# Altium footprint library Connector_JAE.PcbLib: 46 footprints (part 3 of 3)
Each footprint in its own frame and in the unit in brackets; x right, y up, seen from the top. Pads: shape width x height; smd on the part's side, far side on the other; paste and mask are expansions set on the pad; w line width, h text height; cw(c..) or ccw(c..) is an arc to the next point about the centre after c.
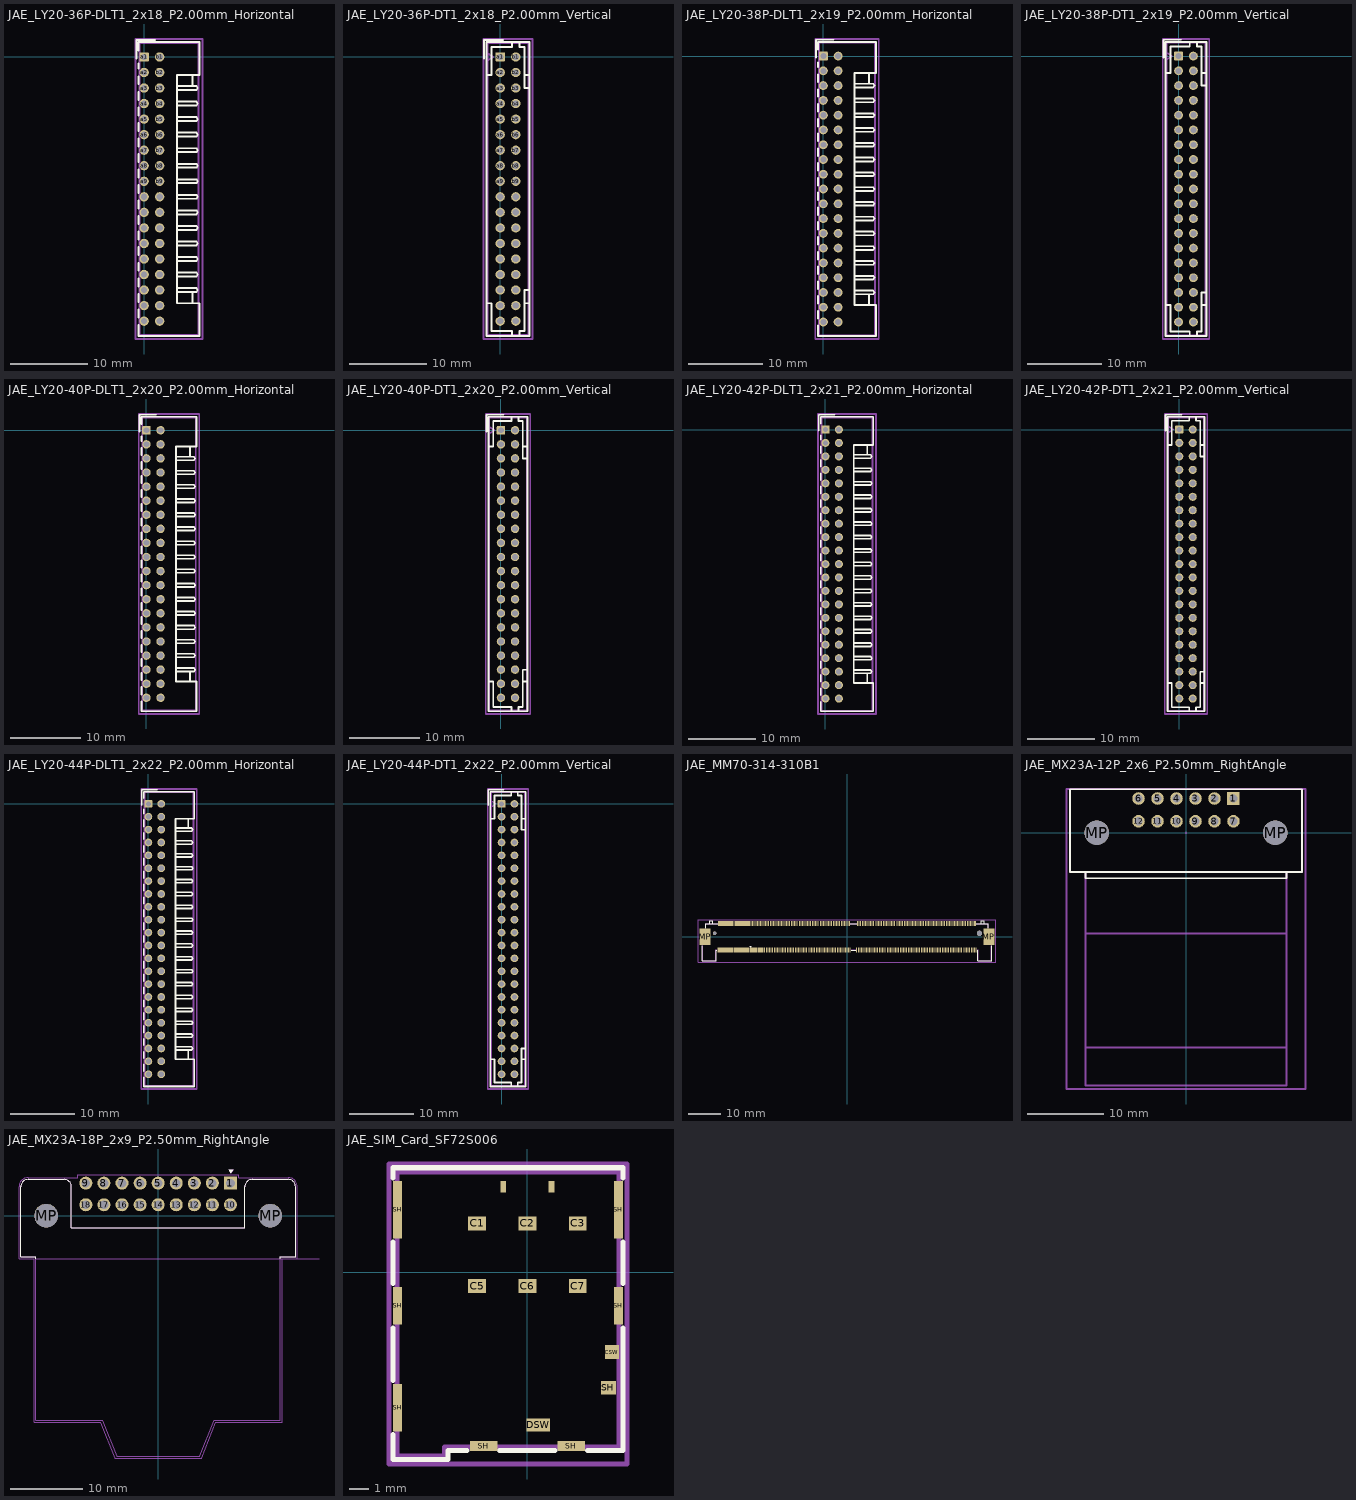
[diagram p2: the footprints below, top view; thin cyan lines are the x and y axes]

## JAE_LY20-36P-DLT1_2x18_P2.00mm_Horizontal [mm]
pads (36):
  rrect21% 1.2x1.2 hole 0.8: a1(0,0)
  round 1.2 hole 0.8: a2(0,-2) a3(0,-4) a4(0,-6) a5(0,-8) a6(0,-10) a7(0,-12) a8(0,-14) a9(0,-16) a10(0,-18) a11(0,-20) a12(0,-22) a13(0,-24) a14(0,-26) a15(0,-28) a16(0,-30) a17(0,-32) a18(0,-34) b1(2,0) b2(2,-2) b3(2,-4) b4(2,-6) b5(2,-8) b6(2,-10) b7(2,-12) b8(2,-14) b9(2,-16) b10(2,-18) b11(2,-20) b12(2,-22) b13(2,-24) b14(2,-26) b15(2,-28) b16(2,-30) b17(2,-32) b18(2,-34)
F.SilkS:
  lines w0.254: -1.01,-0.2 -1.01,2.21 1.4,2.21 ; -0.71,-34.485 -0.71,-35.91 7.11,-35.91 7.11,-31.7 4.2,-31.7 4.2,-17 4.2,-2.3 7.11,-2.3 7.11,1.91 -0.71,1.91 -0.71,0.86 ; -0.71,-33.515 -0.71,-32.485 ; -0.71,-31.515 -0.71,-30.485 ; -0.71,-29.515 -0.71,-28.485 ; -0.71,-27.515 -0.71,-26.485 ; -0.71,-25.515 -0.71,-24.485 ; -0.71,-23.515 -0.71,-22.485 ; -0.71,-21.515 -0.71,-20.485 ; -0.71,-19.515 -0.71,-18.485 ; -0.71,-17.515 -0.71,-16.485 ; -0.71,-15.515 -0.71,-14.485 ; -0.71,-13.515 -0.71,-12.485 ; -0.71,-11.515 -0.71,-10.485 ; -0.71,-9.515 -0.71,-8.485 ; -0.71,-7.515 -0.71,-6.485 ; -0.71,-5.515 -0.71,-4.485 ; -0.71,-3.515 -0.71,-2.485 ; -0.71,-1.515 -0.71,-0.86 ; 4.2,-30.25 6.733,-30.25 6.9,-30 6.733,-29.75 4.2,-29.75 ; 4.2,-28.25 6.733,-28.25 6.9,-28 6.733,-27.75 4.2,-27.75 ; 4.2,-26.25 6.733,-26.25 6.9,-26 6.733,-25.75 4.2,-25.75 ; 4.2,-24.25 6.733,-24.25 6.9,-24 6.733,-23.75 4.2,-23.75 ; 4.2,-22.25 6.733,-22.25 6.9,-22 6.733,-21.75 4.2,-21.75 ; 4.2,-20.25 6.733,-20.25 6.9,-20 6.733,-19.75 4.2,-19.75 ; 4.2,-18.25 6.733,-18.25 6.9,-18 6.733,-17.75 4.2,-17.75 ; 4.2,-16.25 6.733,-16.25 6.9,-16 6.733,-15.75 4.2,-15.75 ; 4.2,-14.25 6.733,-14.25 6.9,-14 6.733,-13.75 4.2,-13.75 ; 4.2,-12.25 6.733,-12.25 6.9,-12 6.733,-11.75 4.2,-11.75 ; 4.2,-10.25 6.733,-10.25 6.9,-10 6.733,-9.75 4.2,-9.75 ; 4.2,-8.25 6.733,-8.25 6.9,-8 6.733,-7.75 4.2,-7.75 ; 4.2,-6.25 6.733,-6.25 6.9,-6 6.733,-5.75 4.2,-5.75 ; 4.2,-4.25 6.733,-4.25 6.9,-4 6.733,-3.75 4.2,-3.75 ; 6.2,-31.7 6.2,-30.25 ; 6.2,-3.75 6.2,-2.3
Top Assembly:
  lines w0.254: -0.6,-0.5 0.107,0 -0.6,0.5 ; -0.6,-35.8 7,-35.8 7,1.8 -0.6,1.8 -0.6,-35.8
  text "'.Designator'" at -0.847,-35.94 h1
Top Courtyard:
  lines w0.254: -1.1,-36.3 7.5,-36.3 7.5,2.31 -1.1,2.31 -1.1,-36.3
Top Designator:
  text ".Designator" at -4.418,-17.503 h1.52

## JAE_LY20-36P-DT1_2x18_P2.00mm_Vertical [mm]
pads (36):
  rrect21% 1.2x1.2 hole 0.8: a1(0,0)
  round 1.2 hole 0.8: a2(0,-2) a3(0,-4) a4(0,-6) a5(0,-8) a6(0,-10) a7(0,-12) a8(0,-14) a9(0,-16) a10(0,-18) a11(0,-20) a12(0,-22) a13(0,-24) a14(0,-26) a15(0,-28) a16(0,-30) a17(0,-32) a18(0,-34) b1(2,0) b2(2,-2) b3(2,-4) b4(2,-6) b5(2,-8) b6(2,-10) b7(2,-12) b8(2,-14) b9(2,-16) b10(2,-18) b11(2,-20) b12(2,-22) b13(2,-24) b14(2,-26) b15(2,-28) b16(2,-30) b17(2,-32) b18(2,-34)
F.SilkS:
  lines w0.254: -2.06,-0.2 -2.06,2.21 0.35,2.21 ; -1.76,-31.7 -1.1,-31.7 -1.1,-35.3 1.5,-35.3 1.5,-35.91 ; -1.76,-2.3 -1.1,-2.3 -1.1,1.3 1.5,1.3 1.5,1.91 ; 2.5,-35.91 2.5,-35.3 3.1,-35.3 3.1,-30 3.76,-30 ; 2.5,1.91 2.5,1.3 3.1,1.3 3.1,-4 3.76,-4 ; 3.1,-31.7 3.76,-31.7 ; 3.1,-2.3 3.76,-2.3 ; -1.76,-35.91 3.76,-35.91 3.76,1.91 -1.76,1.91 -1.76,-35.91
Top Assembly:
  lines w0.254: -1.65,-0.5 -0.943,0 -1.65,0.5 ; -1.65,-35.8 3.65,-35.8 3.65,1.8 -1.65,1.8 -1.65,-35.8
  text "'.Designator'" at 3.79,-21.047 h1
Top Courtyard:
  lines w0.254: -2.15,-36.3 4.15,-36.3 4.15,2.31 -2.15,2.31 -2.15,-36.3
Top Designator:
  text ".Designator" at -6.618,-17.503 h1.52

## JAE_LY20-38P-DLT1_2x19_P2.00mm_Horizontal [mm]
pads (38):
  rrect21% 1.2x1.2 hole 0.8: a1(0,0)
  round 1.2 hole 0.8: a2(0,-2) a3(0,-4) a4(0,-6) a5(0,-8) a6(0,-10) a7(0,-12) a8(0,-14) a9(0,-16) a10(0,-18) a11(0,-20) a12(0,-22) a13(0,-24) a14(0,-26) a15(0,-28) a16(0,-30) a17(0,-32) a18(0,-34) a19(0,-36) b1(2,0) b2(2,-2) b3(2,-4) b4(2,-6) b5(2,-8) b6(2,-10) b7(2,-12) b8(2,-14) b9(2,-16) b10(2,-18) b11(2,-20) b12(2,-22) b13(2,-24) b14(2,-26) b15(2,-28) b16(2,-30) b17(2,-32) b18(2,-34) b19(2,-36)
F.SilkS:
  lines w0.254: -1.01,-0.2 -1.01,2.21 1.4,2.21 ; -0.71,-36.485 -0.71,-37.91 7.11,-37.91 7.11,-33.7 4.2,-33.7 4.2,-18 4.2,-2.3 7.11,-2.3 7.11,1.91 -0.71,1.91 -0.71,0.86 ; -0.71,-35.515 -0.71,-34.485 ; -0.71,-33.515 -0.71,-32.485 ; -0.71,-31.515 -0.71,-30.485 ; -0.71,-29.515 -0.71,-28.485 ; -0.71,-27.515 -0.71,-26.485 ; -0.71,-25.515 -0.71,-24.485 ; -0.71,-23.515 -0.71,-22.485 ; -0.71,-21.515 -0.71,-20.485 ; -0.71,-19.515 -0.71,-18.485 ; -0.71,-17.515 -0.71,-16.485 ; -0.71,-15.515 -0.71,-14.485 ; -0.71,-13.515 -0.71,-12.485 ; -0.71,-11.515 -0.71,-10.485 ; -0.71,-9.515 -0.71,-8.485 ; -0.71,-7.515 -0.71,-6.485 ; -0.71,-5.515 -0.71,-4.485 ; -0.71,-3.515 -0.71,-2.485 ; -0.71,-1.515 -0.71,-0.86 ; 4.2,-32.25 6.733,-32.25 6.9,-32 6.733,-31.75 4.2,-31.75 ; 4.2,-30.25 6.733,-30.25 6.9,-30 6.733,-29.75 4.2,-29.75 ; 4.2,-28.25 6.733,-28.25 6.9,-28 6.733,-27.75 4.2,-27.75 ; 4.2,-26.25 6.733,-26.25 6.9,-26 6.733,-25.75 4.2,-25.75 ; 4.2,-24.25 6.733,-24.25 6.9,-24 6.733,-23.75 4.2,-23.75 ; 4.2,-22.25 6.733,-22.25 6.9,-22 6.733,-21.75 4.2,-21.75 ; 4.2,-20.25 6.733,-20.25 6.9,-20 6.733,-19.75 4.2,-19.75 ; 4.2,-18.25 6.733,-18.25 6.9,-18 6.733,-17.75 4.2,-17.75 ; 4.2,-16.25 6.733,-16.25 6.9,-16 6.733,-15.75 4.2,-15.75 ; 4.2,-14.25 6.733,-14.25 6.9,-14 6.733,-13.75 4.2,-13.75 ; 4.2,-12.25 6.733,-12.25 6.9,-12 6.733,-11.75 4.2,-11.75 ; 4.2,-10.25 6.733,-10.25 6.9,-10 6.733,-9.75 4.2,-9.75 ; 4.2,-8.25 6.733,-8.25 6.9,-8 6.733,-7.75 4.2,-7.75 ; 4.2,-6.25 6.733,-6.25 6.9,-6 6.733,-5.75 4.2,-5.75 ; 4.2,-4.25 6.733,-4.25 6.9,-4 6.733,-3.75 4.2,-3.75 ; 6.2,-33.7 6.2,-32.25 ; 6.2,-3.75 6.2,-2.3
Top Assembly:
  lines w0.254: -0.6,-0.5 0.107,0 -0.6,0.5 ; -0.6,-37.8 7,-37.8 7,1.8 -0.6,1.8 -0.6,-37.8
  text "'.Designator'" at -0.847,-37.94 h1
Top Courtyard:
  lines w0.254: -1.1,-38.3 7.5,-38.3 7.5,2.31 -1.1,2.31 -1.1,-38.3
Top Designator:
  text ".Designator" at -4.418,-18.503 h1.52

## JAE_LY20-38P-DT1_2x19_P2.00mm_Vertical [mm]
pads (38):
  rrect21% 1.2x1.2 hole 0.8: a1(0,0)
  round 1.2 hole 0.8: a2(0,-2) a3(0,-4) a4(0,-6) a5(0,-8) a6(0,-10) a7(0,-12) a8(0,-14) a9(0,-16) a10(0,-18) a11(0,-20) a12(0,-22) a13(0,-24) a14(0,-26) a15(0,-28) a16(0,-30) a17(0,-32) a18(0,-34) a19(0,-36) b1(2,0) b2(2,-2) b3(2,-4) b4(2,-6) b5(2,-8) b6(2,-10) b7(2,-12) b8(2,-14) b9(2,-16) b10(2,-18) b11(2,-20) b12(2,-22) b13(2,-24) b14(2,-26) b15(2,-28) b16(2,-30) b17(2,-32) b18(2,-34) b19(2,-36)
F.SilkS:
  lines w0.254: -2.06,-0.2 -2.06,2.21 0.35,2.21 ; -1.76,-33.7 -1.1,-33.7 -1.1,-37.3 1.5,-37.3 1.5,-37.91 ; -1.76,-2.3 -1.1,-2.3 -1.1,1.3 1.5,1.3 1.5,1.91 ; 2.5,-37.91 2.5,-37.3 3.1,-37.3 3.1,-32 3.76,-32 ; 2.5,1.91 2.5,1.3 3.1,1.3 3.1,-4 3.76,-4 ; 3.1,-33.7 3.76,-33.7 ; 3.1,-2.3 3.76,-2.3 ; -1.76,-37.91 3.76,-37.91 3.76,1.91 -1.76,1.91 -1.76,-37.91
Top Assembly:
  lines w0.254: -1.65,-0.5 -0.943,0 -1.65,0.5 ; -1.65,-37.8 3.65,-37.8 3.65,1.8 -1.65,1.8 -1.65,-37.8
  text "'.Designator'" at 3.79,-22.047 h1
Top Courtyard:
  lines w0.254: -2.15,-38.3 4.15,-38.3 4.15,2.31 -2.15,2.31 -2.15,-38.3
Top Designator:
  text ".Designator" at -6.618,-18.503 h1.52

## JAE_LY20-40P-DLT1_2x20_P2.00mm_Horizontal [mm]
pads (40):
  rrect21% 1.2x1.2 hole 0.8: a1(0,0)
  round 1.2 hole 0.8: a2(0,-2) a3(0,-4) a4(0,-6) a5(0,-8) a6(0,-10) a7(0,-12) a8(0,-14) a9(0,-16) a10(0,-18) a11(0,-20) a12(0,-22) a13(0,-24) a14(0,-26) a15(0,-28) a16(0,-30) a17(0,-32) a18(0,-34) a19(0,-36) a20(0,-38) b1(2,0) b2(2,-2) b3(2,-4) b4(2,-6) b5(2,-8) b6(2,-10) b7(2,-12) b8(2,-14) b9(2,-16) b10(2,-18) b11(2,-20) b12(2,-22) b13(2,-24) b14(2,-26) b15(2,-28) b16(2,-30) b17(2,-32) b18(2,-34) b19(2,-36) b20(2,-38)
F.SilkS:
  lines w0.254: -1.01,-0.2 -1.01,2.21 1.4,2.21 ; -0.71,-38.485 -0.71,-39.91 7.11,-39.91 7.11,-35.7 4.2,-35.7 4.2,-19 4.2,-2.3 7.11,-2.3 7.11,1.91 -0.71,1.91 -0.71,0.86 ; -0.71,-37.515 -0.71,-36.485 ; -0.71,-35.515 -0.71,-34.485 ; -0.71,-33.515 -0.71,-32.485 ; -0.71,-31.515 -0.71,-30.485 ; -0.71,-29.515 -0.71,-28.485 ; -0.71,-27.515 -0.71,-26.485 ; -0.71,-25.515 -0.71,-24.485 ; -0.71,-23.515 -0.71,-22.485 ; -0.71,-21.515 -0.71,-20.485 ; -0.71,-19.515 -0.71,-18.485 ; -0.71,-17.515 -0.71,-16.485 ; -0.71,-15.515 -0.71,-14.485 ; -0.71,-13.515 -0.71,-12.485 ; -0.71,-11.515 -0.71,-10.485 ; -0.71,-9.515 -0.71,-8.485 ; -0.71,-7.515 -0.71,-6.485 ; -0.71,-5.515 -0.71,-4.485 ; -0.71,-3.515 -0.71,-2.485 ; -0.71,-1.515 -0.71,-0.86 ; 4.2,-34.25 6.733,-34.25 6.9,-34 6.733,-33.75 4.2,-33.75 ; 4.2,-32.25 6.733,-32.25 6.9,-32 6.733,-31.75 4.2,-31.75 ; 4.2,-30.25 6.733,-30.25 6.9,-30 6.733,-29.75 4.2,-29.75 ; 4.2,-28.25 6.733,-28.25 6.9,-28 6.733,-27.75 4.2,-27.75 ; 4.2,-26.25 6.733,-26.25 6.9,-26 6.733,-25.75 4.2,-25.75 ; 4.2,-24.25 6.733,-24.25 6.9,-24 6.733,-23.75 4.2,-23.75 ; 4.2,-22.25 6.733,-22.25 6.9,-22 6.733,-21.75 4.2,-21.75 ; 4.2,-20.25 6.733,-20.25 6.9,-20 6.733,-19.75 4.2,-19.75 ; 4.2,-18.25 6.733,-18.25 6.9,-18 6.733,-17.75 4.2,-17.75 ; 4.2,-16.25 6.733,-16.25 6.9,-16 6.733,-15.75 4.2,-15.75 ; 4.2,-14.25 6.733,-14.25 6.9,-14 6.733,-13.75 4.2,-13.75 ; 4.2,-12.25 6.733,-12.25 6.9,-12 6.733,-11.75 4.2,-11.75 ; 4.2,-10.25 6.733,-10.25 6.9,-10 6.733,-9.75 4.2,-9.75 ; 4.2,-8.25 6.733,-8.25 6.9,-8 6.733,-7.75 4.2,-7.75 ; 4.2,-6.25 6.733,-6.25 6.9,-6 6.733,-5.75 4.2,-5.75 ; 4.2,-4.25 6.733,-4.25 6.9,-4 6.733,-3.75 4.2,-3.75 ; 6.2,-35.7 6.2,-34.25 ; 6.2,-3.75 6.2,-2.3
Top Assembly:
  lines w0.254: -0.6,-0.5 0.107,0 -0.6,0.5 ; -0.6,-39.8 7,-39.8 7,1.8 -0.6,1.8 -0.6,-39.8
  text "'.Designator'" at -0.847,-39.94 h1
Top Courtyard:
  lines w0.254: -1.1,-40.3 7.5,-40.3 7.5,2.31 -1.1,2.31 -1.1,-40.3
Top Designator:
  text ".Designator" at -4.418,-19.503 h1.52

## JAE_LY20-40P-DT1_2x20_P2.00mm_Vertical [mm]
pads (40):
  rrect21% 1.2x1.2 hole 0.8: a1(0,0)
  round 1.2 hole 0.8: a2(0,-2) a3(0,-4) a4(0,-6) a5(0,-8) a6(0,-10) a7(0,-12) a8(0,-14) a9(0,-16) a10(0,-18) a11(0,-20) a12(0,-22) a13(0,-24) a14(0,-26) a15(0,-28) a16(0,-30) a17(0,-32) a18(0,-34) a19(0,-36) a20(0,-38) b1(2,0) b2(2,-2) b3(2,-4) b4(2,-6) b5(2,-8) b6(2,-10) b7(2,-12) b8(2,-14) b9(2,-16) b10(2,-18) b11(2,-20) b12(2,-22) b13(2,-24) b14(2,-26) b15(2,-28) b16(2,-30) b17(2,-32) b18(2,-34) b19(2,-36) b20(2,-38)
F.SilkS:
  lines w0.254: -2.06,-0.2 -2.06,2.21 0.35,2.21 ; -1.76,-35.7 -1.1,-35.7 -1.1,-39.3 1.5,-39.3 1.5,-39.91 ; -1.76,-2.3 -1.1,-2.3 -1.1,1.3 1.5,1.3 1.5,1.91 ; 2.5,-39.91 2.5,-39.3 3.1,-39.3 3.1,-34 3.76,-34 ; 2.5,1.91 2.5,1.3 3.1,1.3 3.1,-4 3.76,-4 ; 3.1,-35.7 3.76,-35.7 ; 3.1,-2.3 3.76,-2.3 ; -1.76,-39.91 3.76,-39.91 3.76,1.91 -1.76,1.91 -1.76,-39.91
Top Assembly:
  lines w0.254: -1.65,-0.5 -0.943,0 -1.65,0.5 ; -1.65,-39.8 3.65,-39.8 3.65,1.8 -1.65,1.8 -1.65,-39.8
  text "'.Designator'" at 3.79,-23.047 h1
Top Courtyard:
  lines w0.254: -2.15,-40.3 4.15,-40.3 4.15,2.31 -2.15,2.31 -2.15,-40.3
Top Designator:
  text ".Designator" at -6.618,-19.503 h1.52

## JAE_LY20-42P-DLT1_2x21_P2.00mm_Horizontal [mm]
pads (42):
  rrect21% 1.2x1.2 hole 0.8: a1(0,0)
  round 1.2 hole 0.8: a2(0,-2) a3(0,-4) a4(0,-6) a5(0,-8) a6(0,-10) a7(0,-12) a8(0,-14) a9(0,-16) a10(0,-18) a11(0,-20) a12(0,-22) a13(0,-24) a14(0,-26) a15(0,-28) a16(0,-30) a17(0,-32) a18(0,-34) a19(0,-36) a20(0,-38) a21(0,-40) b1(2,0) b2(2,-2) b3(2,-4) b4(2,-6) b5(2,-8) b6(2,-10) b7(2,-12) b8(2,-14) b9(2,-16) b10(2,-18) b11(2,-20) b12(2,-22) b13(2,-24) b14(2,-26) b15(2,-28) b16(2,-30) b17(2,-32) b18(2,-34) b19(2,-36) b20(2,-38) b21(2,-40)
F.SilkS:
  lines w0.254: -1.01,-0.2 -1.01,2.21 1.4,2.21 ; -0.71,-40.485 -0.71,-41.91 7.11,-41.91 7.11,-37.7 4.2,-37.7 4.2,-20 4.2,-2.3 7.11,-2.3 7.11,1.91 -0.71,1.91 -0.71,0.86 ; -0.71,-39.515 -0.71,-38.485 ; -0.71,-37.515 -0.71,-36.485 ; -0.71,-35.515 -0.71,-34.485 ; -0.71,-33.515 -0.71,-32.485 ; -0.71,-31.515 -0.71,-30.485 ; -0.71,-29.515 -0.71,-28.485 ; -0.71,-27.515 -0.71,-26.485 ; -0.71,-25.515 -0.71,-24.485 ; -0.71,-23.515 -0.71,-22.485 ; -0.71,-21.515 -0.71,-20.485 ; -0.71,-19.515 -0.71,-18.485 ; -0.71,-17.515 -0.71,-16.485 ; -0.71,-15.515 -0.71,-14.485 ; -0.71,-13.515 -0.71,-12.485 ; -0.71,-11.515 -0.71,-10.485 ; -0.71,-9.515 -0.71,-8.485 ; -0.71,-7.515 -0.71,-6.485 ; -0.71,-5.515 -0.71,-4.485 ; -0.71,-3.515 -0.71,-2.485 ; -0.71,-1.515 -0.71,-0.86 ; 4.2,-36.25 6.733,-36.25 6.9,-36 6.733,-35.75 4.2,-35.75 ; 4.2,-34.25 6.733,-34.25 6.9,-34 6.733,-33.75 4.2,-33.75 ; 4.2,-32.25 6.733,-32.25 6.9,-32 6.733,-31.75 4.2,-31.75 ; 4.2,-30.25 6.733,-30.25 6.9,-30 6.733,-29.75 4.2,-29.75 ; 4.2,-28.25 6.733,-28.25 6.9,-28 6.733,-27.75 4.2,-27.75 ; 4.2,-26.25 6.733,-26.25 6.9,-26 6.733,-25.75 4.2,-25.75 ; 4.2,-24.25 6.733,-24.25 6.9,-24 6.733,-23.75 4.2,-23.75 ; 4.2,-22.25 6.733,-22.25 6.9,-22 6.733,-21.75 4.2,-21.75 ; 4.2,-20.25 6.733,-20.25 6.9,-20 6.733,-19.75 4.2,-19.75 ; 4.2,-18.25 6.733,-18.25 6.9,-18 6.733,-17.75 4.2,-17.75 ; 4.2,-16.25 6.733,-16.25 6.9,-16 6.733,-15.75 4.2,-15.75 ; 4.2,-14.25 6.733,-14.25 6.9,-14 6.733,-13.75 4.2,-13.75 ; 4.2,-12.25 6.733,-12.25 6.9,-12 6.733,-11.75 4.2,-11.75 ; 4.2,-10.25 6.733,-10.25 6.9,-10 6.733,-9.75 4.2,-9.75 ; 4.2,-8.25 6.733,-8.25 6.9,-8 6.733,-7.75 4.2,-7.75 ; 4.2,-6.25 6.733,-6.25 6.9,-6 6.733,-5.75 4.2,-5.75 ; 4.2,-4.25 6.733,-4.25 6.9,-4 6.733,-3.75 4.2,-3.75 ; 6.2,-37.7 6.2,-36.25 ; 6.2,-3.75 6.2,-2.3
Top Assembly:
  lines w0.254: -0.6,-0.5 0.107,0 -0.6,0.5 ; -0.6,-41.8 7,-41.8 7,1.8 -0.6,1.8 -0.6,-41.8
  text "'.Designator'" at -0.847,-41.94 h1
Top Courtyard:
  lines w0.254: -1.1,-42.3 7.5,-42.3 7.5,2.31 -1.1,2.31 -1.1,-42.3
Top Designator:
  text ".Designator" at -4.418,-20.503 h1.52

## JAE_LY20-42P-DT1_2x21_P2.00mm_Vertical [mm]
pads (42):
  rrect21% 1.2x1.2 hole 0.8: a1(0,0)
  round 1.2 hole 0.8: a2(0,-2) a3(0,-4) a4(0,-6) a5(0,-8) a6(0,-10) a7(0,-12) a8(0,-14) a9(0,-16) a10(0,-18) a11(0,-20) a12(0,-22) a13(0,-24) a14(0,-26) a15(0,-28) a16(0,-30) a17(0,-32) a18(0,-34) a19(0,-36) a20(0,-38) a21(0,-40) b1(2,0) b2(2,-2) b3(2,-4) b4(2,-6) b5(2,-8) b6(2,-10) b7(2,-12) b8(2,-14) b9(2,-16) b10(2,-18) b11(2,-20) b12(2,-22) b13(2,-24) b14(2,-26) b15(2,-28) b16(2,-30) b17(2,-32) b18(2,-34) b19(2,-36) b20(2,-38) b21(2,-40)
F.SilkS:
  lines w0.254: -2.06,-0.2 -2.06,2.21 0.35,2.21 ; -1.76,-37.7 -1.1,-37.7 -1.1,-41.3 1.5,-41.3 1.5,-41.91 ; -1.76,-2.3 -1.1,-2.3 -1.1,1.3 1.5,1.3 1.5,1.91 ; 2.5,-41.91 2.5,-41.3 3.1,-41.3 3.1,-36 3.76,-36 ; 2.5,1.91 2.5,1.3 3.1,1.3 3.1,-4 3.76,-4 ; 3.1,-37.7 3.76,-37.7 ; 3.1,-2.3 3.76,-2.3 ; -1.76,-41.91 3.76,-41.91 3.76,1.91 -1.76,1.91 -1.76,-41.91
Top Assembly:
  lines w0.254: -1.65,-0.5 -0.943,0 -1.65,0.5 ; -1.65,-41.8 3.65,-41.8 3.65,1.8 -1.65,1.8 -1.65,-41.8
  text "'.Designator'" at 3.79,-24.047 h1
Top Courtyard:
  lines w0.254: -2.15,-42.3 4.15,-42.3 4.15,2.31 -2.15,2.31 -2.15,-42.3
Top Designator:
  text ".Designator" at -6.618,-20.503 h1.52

## JAE_LY20-44P-DLT1_2x22_P2.00mm_Horizontal [mm]
pads (44):
  rrect21% 1.2x1.2 hole 0.8: a1(0,0)
  round 1.2 hole 0.8: a2(0,-2) a3(0,-4) a4(0,-6) a5(0,-8) a6(0,-10) a7(0,-12) a8(0,-14) a9(0,-16) a10(0,-18) a11(0,-20) a12(0,-22) a13(0,-24) a14(0,-26) a15(0,-28) a16(0,-30) a17(0,-32) a18(0,-34) a19(0,-36) a20(0,-38) a21(0,-40) a22(0,-42) b1(2,0) b2(2,-2) b3(2,-4) b4(2,-6) b5(2,-8) b6(2,-10) b7(2,-12) b8(2,-14) b9(2,-16) b10(2,-18) b11(2,-20) b12(2,-22) b13(2,-24) b14(2,-26) b15(2,-28) b16(2,-30) b17(2,-32) b18(2,-34) b19(2,-36) b20(2,-38) b21(2,-40) b22(2,-42)
F.SilkS:
  lines w0.254: -1.01,-0.2 -1.01,2.21 1.4,2.21 ; -0.71,-42.485 -0.71,-43.91 7.11,-43.91 7.11,-39.7 4.2,-39.7 4.2,-21 4.2,-2.3 7.11,-2.3 7.11,1.91 -0.71,1.91 -0.71,0.86 ; -0.71,-41.515 -0.71,-40.485 ; -0.71,-39.515 -0.71,-38.485 ; -0.71,-37.515 -0.71,-36.485 ; -0.71,-35.515 -0.71,-34.485 ; -0.71,-33.515 -0.71,-32.485 ; -0.71,-31.515 -0.71,-30.485 ; -0.71,-29.515 -0.71,-28.485 ; -0.71,-27.515 -0.71,-26.485 ; -0.71,-25.515 -0.71,-24.485 ; -0.71,-23.515 -0.71,-22.485 ; -0.71,-21.515 -0.71,-20.485 ; -0.71,-19.515 -0.71,-18.485 ; -0.71,-17.515 -0.71,-16.485 ; -0.71,-15.515 -0.71,-14.485 ; -0.71,-13.515 -0.71,-12.485 ; -0.71,-11.515 -0.71,-10.485 ; -0.71,-9.515 -0.71,-8.485 ; -0.71,-7.515 -0.71,-6.485 ; -0.71,-5.515 -0.71,-4.485 ; -0.71,-3.515 -0.71,-2.485 ; -0.71,-1.515 -0.71,-0.86 ; 4.2,-38.25 6.733,-38.25 6.9,-38 6.733,-37.75 4.2,-37.75 ; 4.2,-36.25 6.733,-36.25 6.9,-36 6.733,-35.75 4.2,-35.75 ; 4.2,-34.25 6.733,-34.25 6.9,-34 6.733,-33.75 4.2,-33.75 ; 4.2,-32.25 6.733,-32.25 6.9,-32 6.733,-31.75 4.2,-31.75 ; 4.2,-30.25 6.733,-30.25 6.9,-30 6.733,-29.75 4.2,-29.75 ; 4.2,-28.25 6.733,-28.25 6.9,-28 6.733,-27.75 4.2,-27.75 ; 4.2,-26.25 6.733,-26.25 6.9,-26 6.733,-25.75 4.2,-25.75 ; 4.2,-24.25 6.733,-24.25 6.9,-24 6.733,-23.75 4.2,-23.75 ; 4.2,-22.25 6.733,-22.25 6.9,-22 6.733,-21.75 4.2,-21.75 ; 4.2,-20.25 6.733,-20.25 6.9,-20 6.733,-19.75 4.2,-19.75 ; 4.2,-18.25 6.733,-18.25 6.9,-18 6.733,-17.75 4.2,-17.75 ; 4.2,-16.25 6.733,-16.25 6.9,-16 6.733,-15.75 4.2,-15.75 ; 4.2,-14.25 6.733,-14.25 6.9,-14 6.733,-13.75 4.2,-13.75 ; 4.2,-12.25 6.733,-12.25 6.9,-12 6.733,-11.75 4.2,-11.75 ; 4.2,-10.25 6.733,-10.25 6.9,-10 6.733,-9.75 4.2,-9.75 ; 4.2,-8.25 6.733,-8.25 6.9,-8 6.733,-7.75 4.2,-7.75 ; 4.2,-6.25 6.733,-6.25 6.9,-6 6.733,-5.75 4.2,-5.75 ; 4.2,-4.25 6.733,-4.25 6.9,-4 6.733,-3.75 4.2,-3.75 ; 6.2,-39.7 6.2,-38.25 ; 6.2,-3.75 6.2,-2.3
Top Assembly:
  lines w0.254: -0.6,-0.5 0.107,0 -0.6,0.5 ; -0.6,-43.8 7,-43.8 7,1.8 -0.6,1.8 -0.6,-43.8
  text "'.Designator'" at -0.847,-43.94 h1
Top Courtyard:
  lines w0.254: -1.1,-44.3 7.5,-44.3 7.5,2.31 -1.1,2.31 -1.1,-44.3
Top Designator:
  text ".Designator" at -4.418,-21.503 h1.52

## JAE_LY20-44P-DT1_2x22_P2.00mm_Vertical [mm]
pads (44):
  rrect21% 1.2x1.2 hole 0.8: a1(0,0)
  round 1.2 hole 0.8: a2(0,-2) a3(0,-4) a4(0,-6) a5(0,-8) a6(0,-10) a7(0,-12) a8(0,-14) a9(0,-16) a10(0,-18) a11(0,-20) a12(0,-22) a13(0,-24) a14(0,-26) a15(0,-28) a16(0,-30) a17(0,-32) a18(0,-34) a19(0,-36) a20(0,-38) a21(0,-40) a22(0,-42) b1(2,0) b2(2,-2) b3(2,-4) b4(2,-6) b5(2,-8) b6(2,-10) b7(2,-12) b8(2,-14) b9(2,-16) b10(2,-18) b11(2,-20) b12(2,-22) b13(2,-24) b14(2,-26) b15(2,-28) b16(2,-30) b17(2,-32) b18(2,-34) b19(2,-36) b20(2,-38) b21(2,-40) b22(2,-42)
F.SilkS:
  lines w0.254: -2.06,-0.2 -2.06,2.21 0.35,2.21 ; -1.76,-39.7 -1.1,-39.7 -1.1,-43.3 1.5,-43.3 1.5,-43.91 ; -1.76,-2.3 -1.1,-2.3 -1.1,1.3 1.5,1.3 1.5,1.91 ; 2.5,-43.91 2.5,-43.3 3.1,-43.3 3.1,-38 3.76,-38 ; 2.5,1.91 2.5,1.3 3.1,1.3 3.1,-4 3.76,-4 ; 3.1,-39.7 3.76,-39.7 ; 3.1,-2.3 3.76,-2.3 ; -1.76,-43.91 -1.76,1.91 3.76,1.91 3.76,-43.91 -1.76,-43.91
Top Assembly:
  lines w0.254: -1.65,-0.5 -0.943,0 -1.65,0.5 ; -1.65,-43.8 -1.65,1.8 3.65,1.8 3.65,-43.8 -1.65,-43.8
  text "'.Designator'" at 3.79,-25.047 h1
Top Courtyard:
  lines w0.254: -2.15,-44.3 -2.15,2.31 4.15,2.31 4.15,-44.3 -2.15,-44.3
Top Designator:
  text ".Designator" at -6.618,-21.503 h1.52

## JAE_MM70-314-310B1 [mm]
pads (282):
  rect 2.3x1.5 smd: 1(-29,-4.1) 3(-29,-4.1) 5(-29,-4.1) 7(-29,-4.1) 9(-29,-4.1)
  rect 0.3x1.5 smd: 2(-29.75,4.1) 4(-29.25,4.1) 6(-28.75,4.1) 8(-28.25,4.1) 10(-27.75,4.1) 12(-27.25,4.1) 14(-26.75,4.1) 16(-26.25,4.1) 18(-25.75,4.1) 19(-25.5,-4.1) 20(-25.25,4.1) 21(-25,-4.1) 22(-24.75,4.1) 23(-24.5,-4.1) 24(-24.25,4.1) 25(-24,-4.1) 26(-23.75,4.1) 27(-23.5,-4.1) 28(-23.25,4.1) 29(-23,-4.1) 30(-22.75,4.1) 31(-22.5,-4.1) 32(-22.25,4.1) 33(-22,-4.1) 34(-21.75,4.1) 35(-21.5,-4.1) 36(-21.25,4.1) 37(-21,-4.1) 38(-20.75,4.1) 39(-20.5,-4.1) 40(-20.25,4.1) 41(-20,-4.1) 42(-19.75,4.1) 43(-19.5,-4.1) 44(-19.25,4.1) 45(-19,-4.1) 46(-18.75,4.1) 47(-18.5,-4.1) 48(-18.25,4.1) 49(-18,-4.1) 50(-17.75,4.1) 51(-17.5,-4.1) 52(-17.25,4.1) 53(-17,-4.1) 54(-16.75,4.1) 55(-16.5,-4.1) 56(-16.25,4.1) 57(-16,-4.1) 58(-15.75,4.1) 59(-15.5,-4.1) 60(-15.25,4.1) 61(-15,-4.1) 62(-14.75,4.1) 63(-14.5,-4.1) 64(-14.25,4.1) 65(-14,-4.1) 66(-13.75,4.1) 67(-13.5,-4.1) 68(-13.25,4.1) 69(-13,-4.1) 70(-12.75,4.1) 71(-12.5,-4.1) 72(-12.25,4.1) 73(-12,-4.1) 74(-11.75,4.1) 75(-11.5,-4.1) 76(-11.25,4.1) 77(-11,-4.1) 78(-10.75,4.1) 79(-10.5,-4.1) 80(-10.25,4.1) 81(-10,-4.1) 82(-9.75,4.1) 83(-9.5,-4.1) 84(-9.25,4.1) 85(-9,-4.1) 86(-8.75,4.1) 87(-8.5,-4.1) 88(-8.25,4.1) 89(-8,-4.1) 90(-7.75,4.1) 91(-7.5,-4.1) 92(-7.25,4.1) 93(-7,-4.1) 94(-6.75,4.1) 95(-6.5,-4.1) 96(-6.25,4.1) 97(-6,-4.1) 98(-5.75,4.1) 99(-5.5,-4.1) 100(-5.25,4.1) 101(-5,-4.1) 102(-4.75,4.1) 103(-4.5,-4.1) 104(-4.25,4.1) 105(-4,-4.1) 106(-3.75,4.1) 107(-3.5,-4.1) 108(-3.25,4.1) 109(-3,-4.1) 110(-2.75,4.1) 111(-2.5,-4.1) 112(-2.25,4.1) 113(-2,-4.1) 114(-1.75,4.1) 115(-1.5,-4.1) 116(-1.25,4.1) 117(-1,-4.1) 118(-0.75,4.1) 119(-0.5,-4.1) 120(-0.25,4.1) 121(0,-4.1) 122(0.25,4.1) 123(0.5,-4.1) 124(0.75,4.1) 125(1,-4.1) 133(3,-4.1) 134(3.25,4.1) 135(3.5,-4.1) 136(3.75,4.1) 137(4,-4.1) 138(4.25,4.1) 139(4.5,-4.1) 140(4.75,4.1) 141(5,-4.1) 142(5.25,4.1) 143(5.5,-4.1) 144(5.75,4.1) 145(6,-4.1) 146(6.25,4.1) 147(6.5,-4.1) 148(6.75,4.1) 149(7,-4.1) 150(7.25,4.1) 151(7.5,-4.1) 152(7.75,4.1) 153(8,-4.1) 154(8.25,4.1) 155(8.5,-4.1) 156(8.75,4.1) 157(9,-4.1) 158(9.25,4.1) 159(9.5,-4.1) 160(9.75,4.1) 161(10,-4.1) 162(10.25,4.1) 163(10.5,-4.1) 164(10.75,4.1) 165(11,-4.1) 166(11.25,4.1) 167(11.5,-4.1) 168(11.75,4.1) 169(12,-4.1) 170(12.25,4.1) 171(12.5,-4.1) 172(12.75,4.1) 173(13,-4.1) 174(13.25,4.1) 175(13.5,-4.1) 176(13.75,4.1) 177(14,-4.1) 178(14.25,4.1) 179(14.5,-4.1) 180(14.75,4.1) 181(15,-4.1) 182(15.25,4.1) 183(15.5,-4.1) 184(15.75,4.1) 185(16,-4.1) 186(16.25,4.1) 187(16.5,-4.1) 188(16.75,4.1) 189(17,-4.1) 190(17.25,4.1) 191(17.5,-4.1) 192(17.75,4.1) 193(18,-4.1) 194(18.25,4.1) 195(18.5,-4.1) 196(18.75,4.1) 197(19,-4.1) 198(19.25,4.1) 199(19.5,-4.1) 200(19.75,4.1) 201(20,-4.1) 202(20.25,4.1) 203(20.5,-4.1) 204(20.75,4.1) 205(21,-4.1) 206(21.25,4.1) 207(21.5,-4.1) 208(21.75,4.1) 209(22,-4.1) 210(22.25,4.1) 211(22.5,-4.1) 212(22.75,4.1) 213(23,-4.1) 214(23.25,4.1) 215(23.5,-4.1) 216(23.75,4.1) 217(24,-4.1) 218(24.25,4.1) 219(24.5,-4.1) 220(24.75,4.1) 221(25,-4.1) 222(25.25,4.1) 223(25.5,-4.1) 224(25.75,4.1) 225(26,-4.1) 226(26.25,4.1) 227(26.5,-4.1) 228(26.75,4.1) 229(27,-4.1) 230(27.25,4.1) 231(27.5,-4.1) 232(27.75,4.1) 233(28,-4.1) 234(28.25,4.1) 235(28.5,-4.1) 236(28.75,4.1) 237(29,-4.1) 238(29.25,4.1) 239(29.5,-4.1) 240(29.75,4.1) 241(30,-4.1) 242(30.25,4.1) 243(30.5,-4.1) 244(30.75,4.1) 245(31,-4.1) 246(31.25,4.1) 247(31.5,-4.1) 248(31.75,4.1) 249(32,-4.1) 250(32.25,4.1) 251(32.5,-4.1) 252(32.75,4.1) 253(33,-4.1) 254(33.25,4.1) 255(33.5,-4.1) 256(33.75,4.1) 257(34,-4.1) 258(34.25,4.1) 259(34.5,-4.1) 260(34.75,4.1) 261(35,-4.1) 262(35.25,4.1) 263(35.5,-4.1) 264(35.75,4.1) 265(36,-4.1) 266(36.25,4.1) 267(36.5,-4.1) 268(36.75,4.1) 269(37,-4.1) 270(37.25,4.1) 271(37.5,-4.1) 272(37.75,4.1) 273(38,-4.1) 274(38.25,4.1) 275(38.5,-4.1) 276(38.75,4.1) 277(39,-4.1) 279(39.5,-4.1) 281(40,-4.1)
  rect 1.8x1.5 smd: 11(-26.75,-4.1) 13(-26.75,-4.1) 15(-26.75,-4.1) 17(-26.75,-4.1)
  rect 0.8x1.5 smd: 278(39.5,4.1) 280(39.5,4.1)
  rect 4.8x1.5 smd: E1(-37.75,-4.1) E2(-37.5,4.1) E3(-32.75,-4.1) E4(-32.5,4.1)
  rect 3.3x5 smd: MP(-43.95,0) MP(43.95,0)
  round 1.1 hole 1.1: Un1(-41,1.1)
  round 1.6 hole 1.6: Un2(41,1.1)
F.SilkS:
  lines w0.254: -44.8,-2.7 -44.8,-7.45 -40.5,-7.45 -40.5,-4.1 -40.3,-4.1 ; -43.8,2.7 -43.8,4.1 -40.1,4.1 ; -42.5,4.1 -42.5,4.9 -41.5,4.9 -41.5,4.1 ; 1,4.1 3,4.1 ; 1.3,-4.1 2.7,-4.1 ; 40.1,4.1 43.8,4.1 43.8,2.7 ; 40.3,-4.1 40.5,-4.1 40.5,-7.45 44.8,-7.45 44.8,-2.7 ; 41.5,4.1 41.5,4.9 42.5,4.9 42.5,4.1 ; -30.052,-2.892 -29.652,-2.892 -29.852,-3.175 -30.052,-2.892
Top Assembly:
  lines w0.254: -44.7,-2.7 -44.7,-7.35 -40.6,-7.35 -40.6,-4 -40.3,-4 ; -43.7,2.7 -43.7,4 -40.1,4 ; 1,4 3,4 ; 1.3,-4 2.7,-4 ; 40.1,4 43.7,4 43.7,2.7 ; 40.303,-4 40.603,-4 ; 40.6,-4 40.6,-7.35 44.7,-7.35 44.7,-2.7
  text "'.Designator'" at -4.047,-7.34 h1
Top Courtyard:
  lines w0.254: -46.1,-7.85 -46.1,5.35 46.1,5.35 46.1,-7.85 -46.1,-7.85
Top Designator:
  text ".Designator" at -7.618,-1.758 h1.52

## JAE_MX23A-12P_2x6_P2.50mm_RightAngle [mm]
pads (14):
  rect 1.65x1.65 hole 1.1: 1(6.25,4.5)
  round 1.65 hole 1.1: 2(3.75,4.5) 3(1.25,4.5) 4(-1.25,4.5) 5(-3.75,4.5) 6(-6.25,4.5) 7(6.25,1.5) 8(3.75,1.5) 9(1.25,1.5) 10(-1.25,1.5) 11(-3.75,1.5) 12(-6.25,1.5)
  round 3.2 hole 3.2: MP(-11.75,0) MP(11.75,0)
F.SilkS:
  lines w0.254: -13.25,-5.2 -15.25,-5.2 -15.25,5 -15.25,5.705 -15.24,5.715 15.24,5.715 15.25,5.705 15.25,5 15.25,-5.2 13.25,-5.2 ; -13.25,-5.2 13.25,-5.2 ; -13.25,-5.2 -13.25,-6 13.25,-6 13.25,-5.2
Top Component Center:
  lines w0.127: -0.127,0 0.127,0 ; 0,-0.127 0,0.127
Top Assembly:
  lines w0.254: -13.25,-5.2 -13.25,-13.3 ; 13.25,-5.2 13.25,-13.3 ; -13.25,-28.3 -13.25,-33.3 13.25,-33.3 13.25,-28.3 ; -13.25,-28.3 13.25,-28.3 ; -13.25,-28.3 -13.25,-13.3 ; -13.25,-13.3 13.25,-13.3 ; 13.25,-28.3 13.25,-13.3 ; -15.24,-5.207 -15.24,5.715 15.26,5.715 15.26,-5.187 15.24,-5.207 -15.24,-5.207
  text "PCB Edge" at -3.683,-7.493 h1
  text "'.Designator'" at -3.666,-1.371 h1
Top Courtyard:
  lines w0.254: -15.75,-33.75 -15.75,5.75 15.75,5.75 15.75,-33.75 -15.75,-33.75
Top Designator:
  text ".Designator" at -7.618,-2.921 h1.52
3D body "JAE_MX23A-12P_2x6_P2.50mm_RightAngle.stp": height 18.35, standoff -3.05, extent -15.25,-33.347 15.25,4.953

## JAE_MX23A-18P_2x9_P2.50mm_RightAngle [mm]
pads (20):
  rect 1.8x1.8 hole 1.2: 1(10,4.5)
  round 1.8 hole 1.2: 2(7.5,4.5) 3(5,4.5) 4(2.5,4.5) 5(0,4.5) 6(-2.5,4.5) 7(-5,4.5) 8(-7.5,4.5) 9(-10,4.5) 10(10,1.5) 11(7.5,1.5) 12(5,1.5) 13(2.5,1.5) 14(0,1.5) 15(-2.5,1.5) 16(-5,1.5) 17(-7.5,1.5) 18(-10,1.5)
  round 3.25 hole 3.25: MP(-15.5,0) MP(15.5,0)
F.SilkS:
  region: 10.076,5.861 9.736,6.331 10.416,6.331
  lines w0.127: -16.9,-6 -16.9,-5.7 -19,-5.7 -19,4 cw(c-18,4) -18,5 -13,5 cw(c-13,4) -12,4 -12,-1.7 12,-1.7 12,4 cw(c13,4) 13,5 18,5 cw(c18,4) 19,4 19,-5.7 16.9,-5.7 16.9,-6
Top Assembly:
  region: 10.083,5.85 9.743,6.32 10.423,6.32
  lines w0.127: 22.25,-6 16.9,-6 ; -16.9,-6 -16.9,-28.3 -7.75,-28.3 -5.75,-33.3 5.75,-33.3 7.75,-28.3 16.9,-28.3 16.9,-6 ; -16.9,-6 -16.9,-5.7 -19,-5.7 -19,4 cw(c-18,4) -18,5 -13,5 cw(c-13,4) -12,4 -12,-1.7 12,-1.7 12,4 cw(c13,4) 13,5 18,5 cw(c18,4) 19,4 19,-5.7 16.9,-5.7 16.9,-6 ; -16.9,-6 16.9,-6
  text "PCB EDGE" at -2.921,-5.588 h0.64
Top Courtyard:
  lines w0.05: -19.25,-5.95 -19.25,4 cw(c-18,4) -18,5.25 -11.15,5.25 -11.15,5.65 11.15,5.65 11.15,5.25 18,5.25 cw(c18,4) 19.25,4 19.25,-5.95 17.15,-5.95 17.15,-28.55 8,-28.55 6,-33.55 -6,-33.55 -8,-28.55 -17.15,-28.55 -17.15,-5.95 -19.25,-5.95
3D body "JAE_MX23A-18P_2x9_P2.50mm_RightAngle.stp": height 18.35, standoff -3.05, extent -19,-33.194 19,5.106

## JAE_SIM_Card_SF72S006 [mm]
pads (18):
  rect 0.9x0.7 smd: C1(-2.54,2.46) C2(0,2.46) C3(2.54,2.46) C5(-2.54,-0.71) C6(0,-0.71) C7(2.54,-0.71)
  rect 0.7x0.7 smd: CSW(4.27,-4.04)
  rect 1.2x0.65 smd: DSW(0.55,-7.715)
  rect 0.45x2.4 smd: SH(-6.555,-6.84)
  rect 0.45x1.9 smd: SH(-6.555,-1.69) SH(4.595,-1.69)
  rect 0.45x2.9 smd: SH(-6.555,3.16) SH(4.595,3.16)
  rect 1.4x0.5 smd: SH(-2.2,-8.79) SH(2.22,-8.79)
  rect 0.3x0.6 smd: SH(-1.22,4.31) SH(1.22,4.31)
  rect 0.75x0.7 smd: SH(4.095,-5.84)
F.SilkS:
  lines w0.254: -6.794,-8.191 -6.794,-9.461 -4,-9.461 -4,-9.017 ; -6.794,-5.461 -6.794,-2.815 ; -6.794,-0.572 -6.794,1.524 ; -6.794,4.763 -6.794,5.271 4.82,5.271 4.82,4.763 ; -4,-9.015 -3.048,-9.015 ; -1.397,-9.015 1.397,-9.017 ; 3.048,-9.015 4.826,-9.015 4.826,-2.815 ; 4.826,-0.572 4.826,1.524
Top Assembly:
  lines w0.254: -6.58,-9.29 -6.58,5.06 4.62,5.06 4.62,-8.84 -4.18,-8.84 -4.18,-9.29 -6.58,-9.29
  text "'.Designator'" at -4.047,-3.38 h1
Top Courtyard:
  lines w0.254: -6.98,-9.69 -6.98,5.46 5.02,5.46 5.02,-9.69 -6.98,-9.69
Top Designator:
  text ".Designator" at -8.598,-2.623 h1.52